# Altium footprint library CSEB1090 Series.PcbLib: 1 footprints
Each footprint in its own frame and in the unit in brackets; x right, y up, seen from the top. Pads: shape width x height; smd on the part's side, far side on the other; paste and mask are expansions set on the pad; w line width, h text height; cw(c..) or ccw(c..) is an arc to the next point about the centre after c.
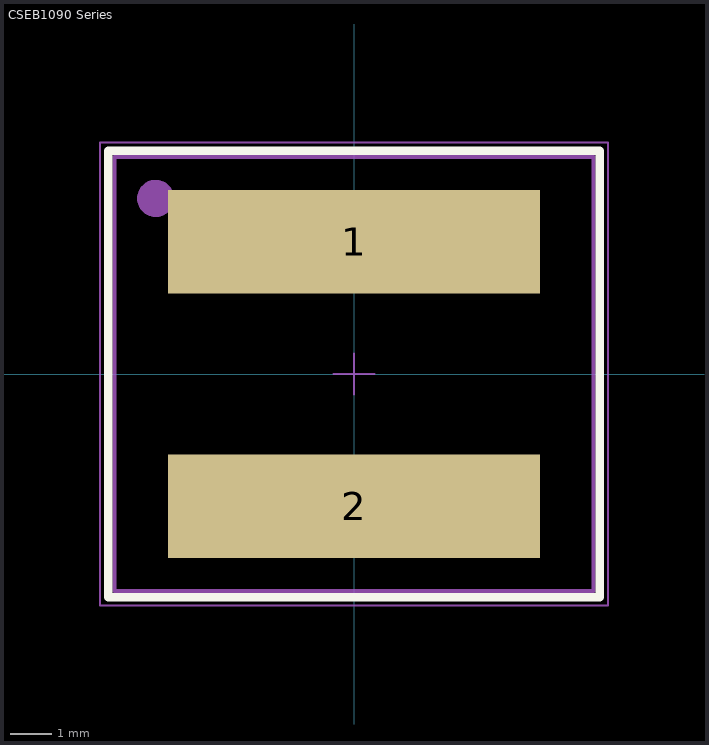
[diagram p0: the footprint, top view; thin cyan lines are the x and y axes]

## CSEB1090 Series [mm] "SMT Power Inductor, 2-Leads, body 11.6x10.5mm"
height 9.1
pads (2):
  rect 9x2.5 smd: 1(0,3.2) 2(0,-3.2)
Top Overlay:
  lines w0.2: -5.95,-5.4 5.95,-5.4 5.95,5.4 -5.95,5.4 -5.95,-5.4
Mechanical 13:
  circle w0.5: c-4.8,4.25 r0.2
  lines w0.1: -5.8,-5.25 5.8,-5.25 5.8,5.25 -5.8,5.25 -5.8,-5.25
Mechanical 15:
  lines w0.05: -0.5,0 0.5,0 ; 0,-0.5 0,0.5 ; -6.15,-5.6 6.15,-5.6 6.15,5.6 -6.15,5.6 -6.15,-5.6
3D body "74439369xxx.stp": height 8.8, standoff 0, extent -5.8,-5.25 5.8,5.25